# EAGLE library part B6B-PH-SM4-TB_LF__SN__B8B-PH-SM4-TB(LF)(SN) (library AT SoM Carrier Board V0.3r2)
PH Series 2 mm Pitch 12 Position SMT Single Row Top Entry Shrouded Header
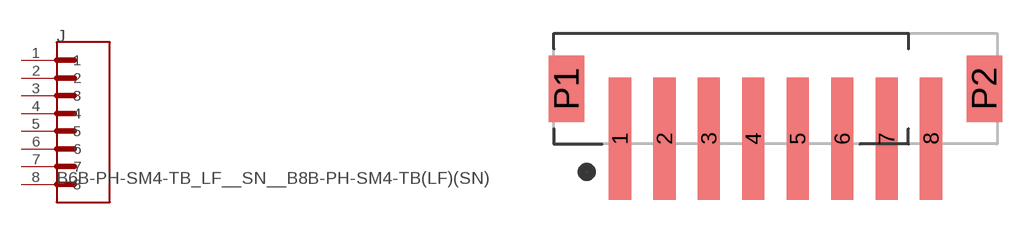
[diagram p2: symbol with the pads of B6B-PH-SM4-TB_LF__SN__JST_B8B-PH-SM4-TB(LF)(SN); footprint B6B-PH-SM4-TB_LF__SN__JST_B8B-PH-SM4-TB(LF)(SN)]

Designator prefix J

## B6B-PH-SM4-TB_LF__SN__B8B-PH-SM4-TB(LF)(SN)  [B6B-PH-SM4-TB_LF__SN__JST_B8B-PH-SM4-TB(LF)(SN)]
1  1  pas
2  2  pas
3  3  pas
4  4  pas
5  5  pas
6  6  pas
7  7  pas
8  8  pas

## Footprint B6B-PH-SM4-TB_LF__SN__JST_B8B-PH-SM4-TB(LF)(SN) (pad centres in mm)
smd 1 x 5.5: 1 -5,0; 2 -3,0; 3 -1,0; 4 1,0; 5 3,0; 6 5,0; 7 7,0; 8 9,0
smd 1.6 x 3: P1 -7.4,2.25; P2 11.4,2.25